# Altium footprint library R2512.PcbLib: 1 footprints
Each footprint in its own frame and in the unit in brackets; x right, y up, seen from the top. Pads: shape width x height; smd on the part's side, far side on the other; paste and mask are expansions set on the pad; w line width, h text height; cw(c..) or ccw(c..) is an arc to the next point about the centre after c.
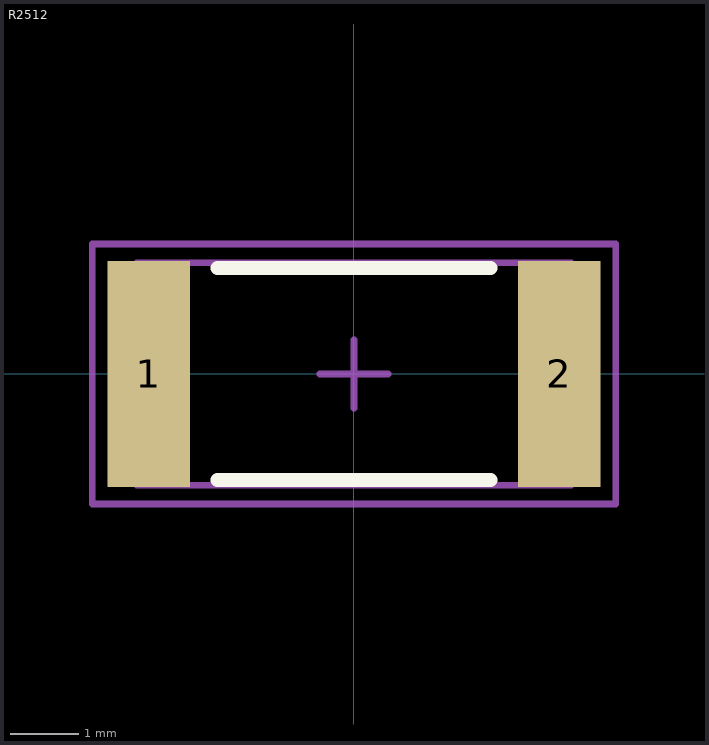
[diagram p0: the footprint, top view; thin cyan lines are the x and y axes]

## R2512 [mm] "Chip Resistor, Body 6.3x3.1mm, IPC Medium Density"
height 0.65
pads (2):
  rect 1.2x3.3 smd: 1(-3,0) 2(3,0)
Top Overlay:
  lines w0.2: -2,-1.55 2,-1.55 ; -2,1.55 2,1.55
Mechanical 13:
  lines w0.1: -3.175,-1.625 -3.175,1.625 3.175,1.625 3.175,-1.625 -3.175,-1.625
Mechanical 15:
  lines w0.1: -0.5,0 0.5,0 ; 0,-0.5 0,0.5 ; -3.825,-1.9 -3.825,1.9 3.825,1.9 3.825,-1.9 -3.825,-1.9
3D body: height 0.65, standoff 0, extent -3.175,-1.625 3.175,1.625